# EAGLE library part VL53L1X (library Pololu)
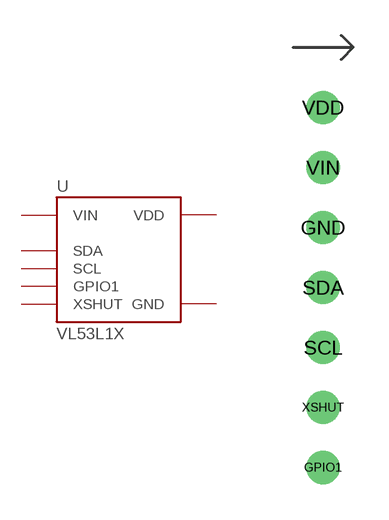
[diagram p1: symbol with the pads of VL53L1X; footprint VL53L1X]

Designator prefix -

## VL53L1X  [VL53L1X]
GND  GND  pwr
GPIO1  GPIO1  out
SCL  SCL  out
SDA  SDA  out
VDD  VDD  pwr
VIN  VIN  pwr
XSHUT  XSHUT  in

## Footprint VL53L1X (pad centres in mm)
drill 0.889: GND 0,-5.08; GPIO1 0,-15.24; SCL 0,-10.16; SDA 0,-7.62; VDD 0,0; VIN 0,-2.54; XSHUT 0,-12.7